# EAGLE library part LTV-846 (library lichtenstein_onion)
LTV-846 – 4 Channel Optocoupler Footprint Proven Information <https://www.mouser.com/ProductDetail/Lite-On/LTV-846?qs=sGAEpiMZZMteimceiIVCBx3Y662pemTNzbYJ80qgGrs%3d>
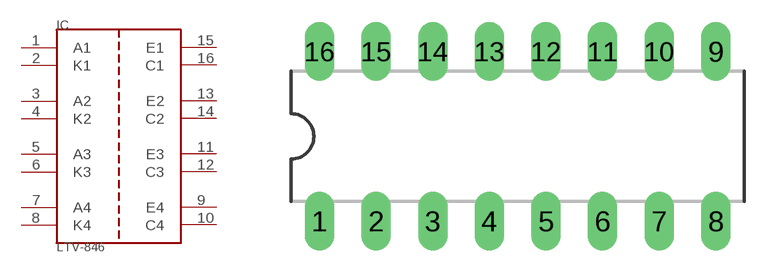
[diagram p10: symbol with the pads of DIL16; footprint DIL16]

Designator prefix IC

## LTV-846PDIP16  [DIL16]
1  A1
2  K1
3  A2
4  K2
5  A3
6  K3
7  A4
8  K4
9  E4
10  C4
11  E3
12  C3
13  E2
14  C2
15  E1
16  C1

## Footprint DIL16 (pad centres in mm)
Dual In Line Package
drill 0.813 long: 1 -8.89,-3.81; 2 -6.35,-3.81; 3 -3.81,-3.81; 4 -1.27,-3.81; 5 1.27,-3.81; 6 3.81,-3.81; 7 6.35,-3.81; 8 8.89,-3.81; 9 8.89,3.81; 10 6.35,3.81; 11 3.81,3.81; 12 1.27,3.81; 13 -1.27,3.81; 14 -3.81,3.81; 15 -6.35,3.81; 16 -8.89,3.81